# Altium footprint library LCD_RC1602B-BIW-CSV.PcbLib: 1 footprints
Each footprint in its own frame and in the unit in brackets; x right, y up, seen from the top. Pads: shape width x height; smd on the part's side, far side on the other; paste and mask are expansions set on the pad; w line width, h text height; cw(c..) or ccw(c..) is an arc to the next point about the centre after c.
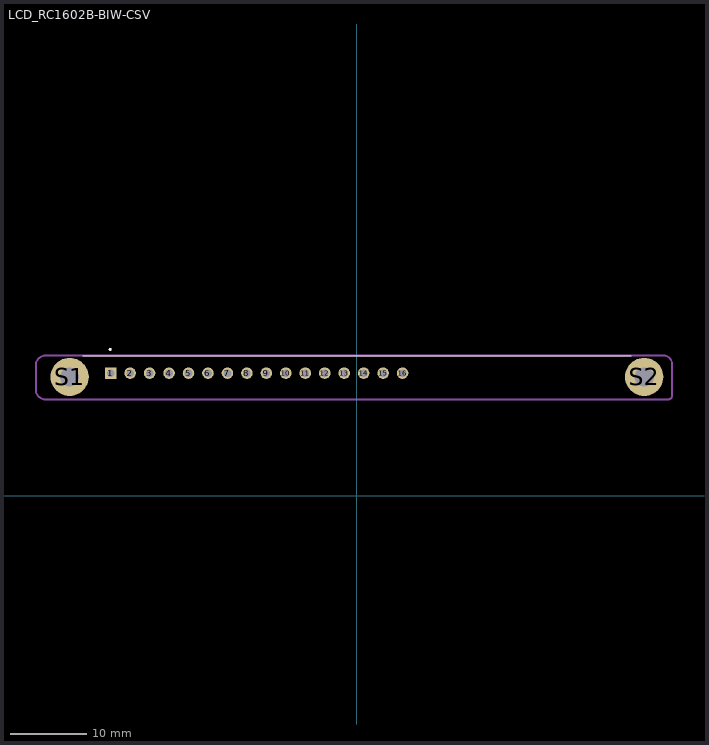
[diagram p0: the footprint, top view; thin cyan lines are the x and y axes]

## LCD_RC1602B-BIW-CSV [mm]
height 13.5
pads (18):
  rect 1.508x1.508 / inner round 1.508 / far side rect 1.508x1.508 hole 1: 1(-32.14,16)
  round 1.508 hole 1: 2(-29.6,16) 3(-27.06,16) 4(-24.52,16) 5(-21.98,16) 6(-19.44,16) 7(-16.9,16) 8(-14.36,16) 9(-11.82,16) 10(-9.28,16) 11(-6.74,16) 12(-4.2,16) 13(-1.66,16) 14(0.88,16) 15(3.42,16) 16(5.96,16)
  round 5 hole 2.5: S1(-37.5,15.5) S2(37.5,15.5)
Top Overlay:
  circle w0.2: c-32.2,19.1 r0.1
  lines w0.127: -35.8,18.25 35.8,18.25
Mechanical 1:
  lines w0.254: -41.91,13.843 ccw(c-40.64,13.843) -40.64,12.573 40.64,12.573 ccw(c40.64,13.081) 41.148,13.081 41.148,17.145 ccw(c40.005,17.145) 40.005,18.288 -40.259,18.288 -40.64,18.288 ccw(c-40.64,17.018) -41.91,17.018 -41.91,13.843
Mechanical 13:
  circle w0.2: c-32.2,19.1 r0.1
  lines w0.127: -40.25,18.25 40.25,18.25 ; -35.6,12.6 35.6,12.6